# Altium footprint library FootprintLib.PcbLib: 194 footprints (part 5 of 13)
Each footprint in its own frame and in the unit in brackets; x right, y up, seen from the top. Pads: shape width x height; smd on the part's side, far side on the other; paste and mask are expansions set on the pad; w line width, h text height; cw(c..) or ccw(c..) is an arc to the next point about the centre after c.
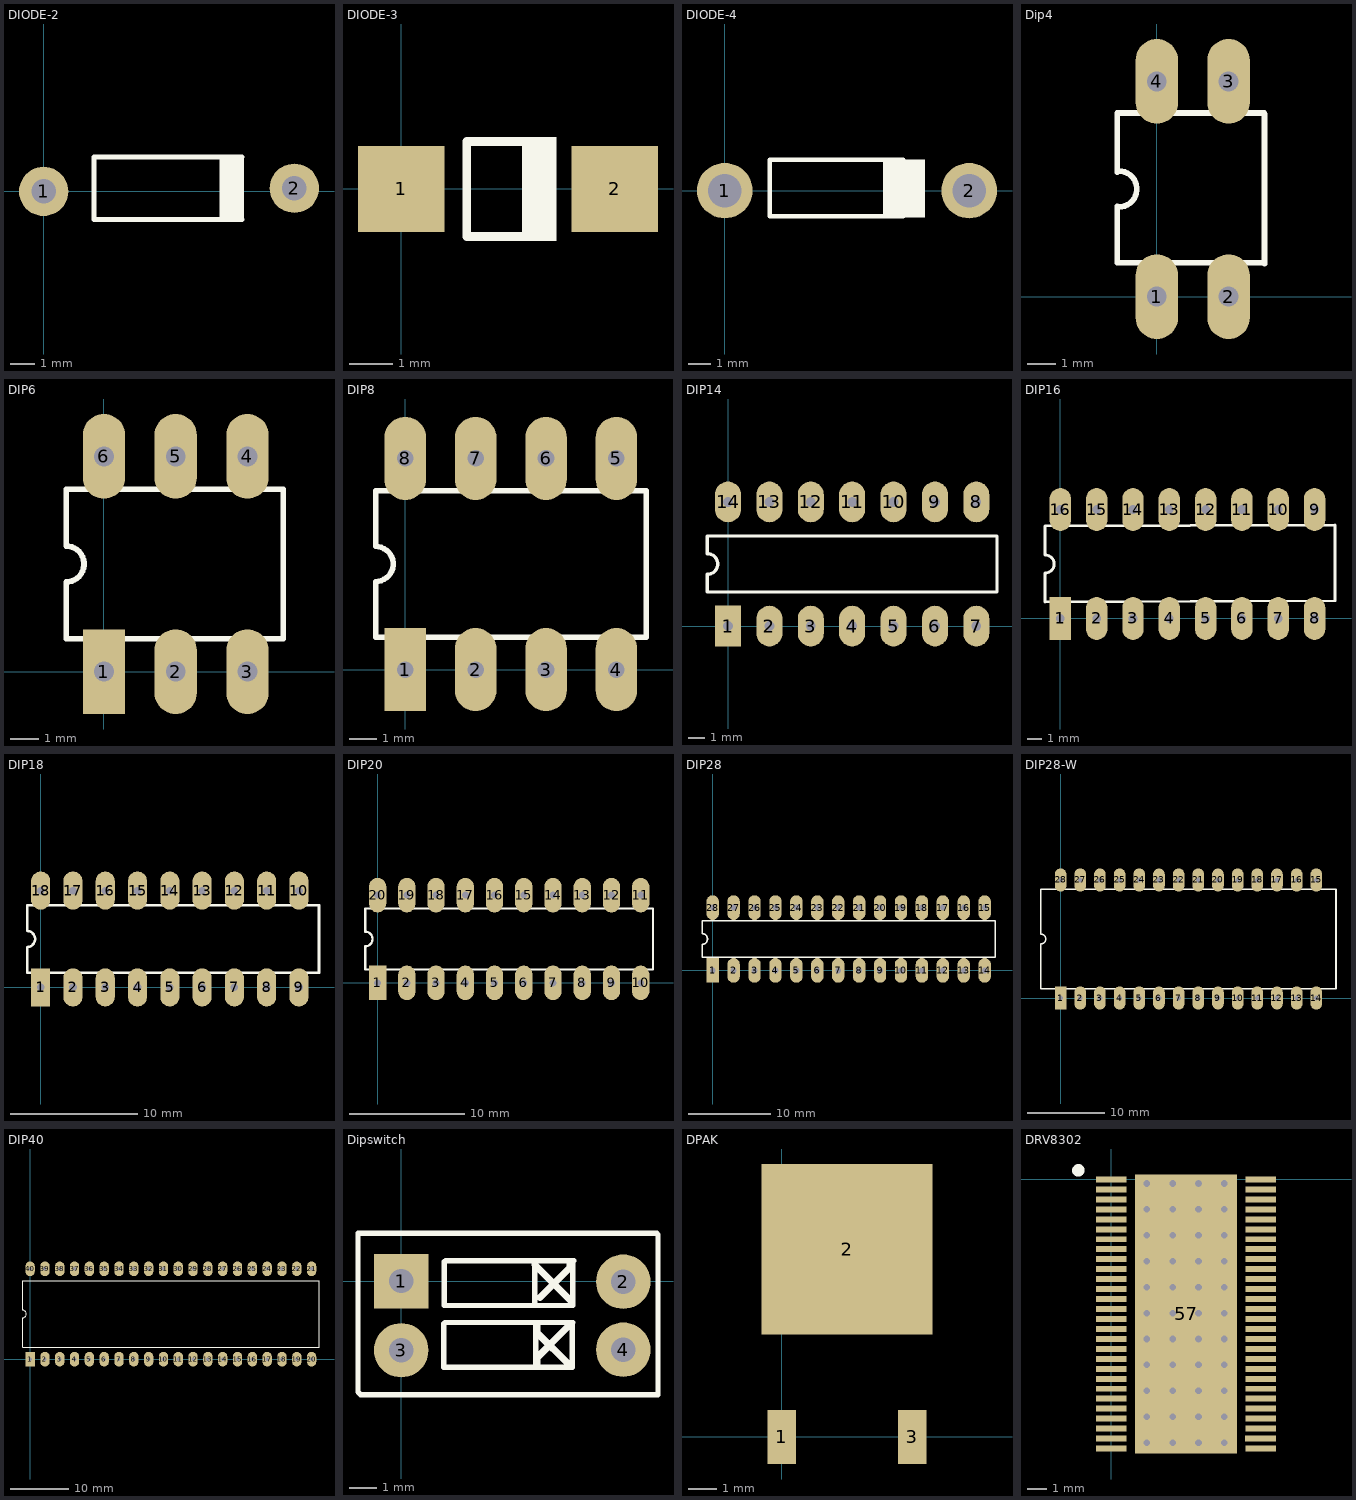
[diagram p4: the footprints below, top view; thin cyan lines are the x and y axes]

## DIODE-2 [mm]
pads (2):
  round 2 hole 1: 1(0,0) 2(10.16,0.127)
Top Overlay:
  rectangle: 7.128,-1.203 8.128,1.397
  lines w0.2: 2.032,1.357 2.032,-1.143 8.032,-1.143 ; 2.032,1.397 8.032,1.397

## DIODE-3 [mm]
pads (2):
  rect 2x2 smd: 1(0,0) 2(4.953,0)
Top Overlay:
  rectangle: 2.797,-1.2 3.597,1.2
  lines w0.2: 3.429,-1.1 1.524,-1.1 1.524,1.1 3.429,1.1

## DIODE-4 [mm]
pads (2):
  round 2.5 hole 1.5: 1(0,0) 2(11,0)
Top Overlay:
  rectangle: 7.128,-1.203 9.017,1.397
  lines w0.2: 2.032,1.357 2.032,-1.143 8.032,-1.143 ; 2.032,1.397 8.032,1.397

## Dip4 [mm]
pads (4):
  oval 1.5x3 hole 0.7: 1(0,0) 2(2.54,0) 3(2.54,7.62) 4(0,7.62)
Top Overlay:
  lines w0.2: -1.4,3.2 -1.4,1.2 3.8,1.2 ; -1.4,4.4 -1.4,6.5 3.8,6.5 ; -1.34,3.175 ccw(c-1.34,3.81) -1.34,4.445 ; 3.81,1.16 3.81,6.46

## DIP6 [mm]
pads (6):
  rect 1.5x3 hole 0.7: 1(0,0)
  oval 1.5x3 hole 0.7: 2(2.54,0) 3(5.08,0) 4(5.08,7.62) 5(2.54,7.62) 6(0,7.62)
Top Overlay:
  lines w0.2: -1.34,1.16 6.35,1.16 6.35,6.46 -1.34,6.46 -1.34,4.445 cw(c-1.34,3.81) -1.34,3.175 -1.34,1.16

## DIP8 [mm]
pads (8):
  rect 1.5x3 hole 0.6: 1(0,0)
  oval 1.5x3 hole 0.6: 2(2.54,0) 3(5.08,0) 4(7.62,0) 5(7.62,7.62) 6(5.08,7.62) 7(2.54,7.62) 8(0,7.62)
Top Overlay:
  lines w0.2: -1.07,1.16 -1.07,3.175 ccw(c-1.07,3.81) -1.07,4.445 -1.07,6.46 8.69,6.46 8.69,1.16 -1.07,1.16

## DIP14 [mm]
pads (14):
  rect 1.6x2.5 hole 0.6: 1(0,0)
  oval 1.6x2.5 hole 0.6: 2(2.54,0) 3(5.08,0) 4(7.62,0) 5(10.16,0) 6(12.7,0) 7(15.24,0) 8(15.24,7.62) 9(12.7,7.62) 10(10.16,7.62) 11(7.62,7.62) 12(5.08,7.62) 13(2.54,7.62) 14(0,7.62)
Top Overlay:
  lines w0.2: -1.27,2.085 16.51,2.085 16.51,5.535 -1.27,5.535 -1.27,4.445 cw(c-1.27,3.81) -1.27,3.175 -1.27,2.085

## DIP16 [mm]
pads (16):
  rect 1.5x3 hole 0.6: 1(0,0)
  oval 1.5x3 hole 0.6: 2(2.54,0) 3(5.08,0) 4(7.62,0) 5(10.16,0) 6(12.7,0) 7(15.24,0) 8(17.78,0) 9(17.78,7.62) 10(15.24,7.62) 11(12.7,7.62) 12(10.16,7.62) 13(7.62,7.62) 14(5.08,7.62) 15(2.54,7.62) 16(0,7.62)
Top Overlay:
  lines w0.2: -1.07,1.16 -1.07,3.175 ccw(c-1.07,3.81) -1.07,4.445 -1.07,6.46 19.22,6.55 19.22,1.24 -1.07,1.16

## DIP18 [mm]
pads (18):
  rect 1.5x3 hole 0.6: 1(0,0)
  oval 1.5x3 hole 0.6: 2(2.54,0) 3(5.08,0) 4(7.62,0) 5(10.16,0) 6(12.7,0) 7(15.24,0) 8(17.78,0) 9(20.32,0) 10(20.32,7.62) 11(17.78,7.62) 12(15.24,7.62) 13(12.7,7.62) 14(10.16,7.62) 15(7.62,7.62) 16(5.08,7.62) 17(2.54,7.62) 18(0,7.62)
Top Overlay:
  lines w0.2: -1.07,1.16 21.898,1.16 21.898,6.46 -1.07,6.46 -1.07,4.445 cw(c-1.07,3.81) -1.07,3.175 -1.07,1.16

## DIP20 [mm]
pads (20):
  rect 1.5x3 hole 0.6: 1(0,0)
  oval 1.5x3 hole 0.6: 2(2.54,0) 3(5.08,0) 4(7.62,0) 5(10.16,0) 6(12.7,0) 7(15.24,0) 8(17.78,0) 9(20.32,0) 10(22.86,0) 11(22.86,7.62) 12(20.32,7.62) 13(17.78,7.62) 14(15.24,7.62) 15(12.7,7.62) 16(10.16,7.62) 17(7.62,7.62) 18(5.08,7.62) 19(2.54,7.62) 20(0,7.62)
Top Overlay:
  lines w0.2: -1.07,1.16 23.93,1.16 23.93,6.46 -1.07,6.46 -1.07,4.445 cw(c-1.07,3.81) -1.07,3.175 -1.07,1.16

## DIP28 [mm]
pads (28):
  rect 1.5x3 hole 0.7: 1(0,0)
  oval 1.5x3 hole 0.7: 2(2.54,0) 3(5.08,0) 4(7.62,0) 5(10.16,0) 6(12.7,0) 7(15.24,0) 8(17.78,0) 9(20.32,0) 10(22.86,0) 11(25.4,0) 12(27.94,0) 13(30.48,0) 14(33.02,0) 15(33.02,7.62) 16(30.48,7.62) 17(27.94,7.62) 18(25.4,7.62) 19(22.86,7.62) 20(20.32,7.62) 21(17.78,7.62) 22(15.24,7.62) 23(12.7,7.62) 24(10.16,7.62) 25(7.62,7.62) 26(5.08,7.62) 27(2.54,7.62) 28(0,7.62)
Top Overlay:
  lines w0.2: -1.27,1.585 -1.27,3.175 ccw(c-1.27,3.81) -1.27,4.445 -1.27,6.035 34.29,6.035 34.29,1.585 -1.27,1.585

## DIP28-W [mm]
pads (28):
  rect 1.5x3 hole 0.6: 1(0,0)
  oval 1.5x3 hole 0.6: 2(2.54,0) 3(5.08,0) 4(7.62,0) 5(10.16,0) 6(12.7,0) 7(15.24,0) 8(17.78,0) 9(20.32,0) 10(22.86,0) 11(25.4,0) 12(27.94,0) 13(30.48,0) 14(33.02,0) 15(33.02,15.24) 16(30.48,15.24) 17(27.94,15.24) 18(25.4,15.24) 19(22.86,15.24) 20(20.32,15.24) 21(17.78,15.24) 22(15.24,15.24) 23(12.7,15.24) 24(10.16,15.24) 25(7.62,15.24) 26(5.08,15.24) 27(2.54,15.24) 28(0,15.24)
Top Overlay:
  lines w0.2: -2.54,1.17 -2.54,6.985 ccw(c-2.54,7.62) -2.54,8.255 -2.54,14.07 35.56,14.07 35.56,1.17 -2.54,1.17

## DIP40 [mm]
pads (40):
  rect 1.6x2.5 hole 0.6: 1(0,0)
  oval 1.6x2.5 hole 0.6: 2(2.54,0) 3(5.08,0) 4(7.62,0) 5(10.16,0) 6(12.7,0) 7(15.24,0) 8(17.78,0) 9(20.32,0) 10(22.86,0) 11(25.4,0) 12(27.94,0) 13(30.48,0) 14(33.02,0) 15(35.56,0) 16(38.1,0) 17(40.64,0) 18(43.18,0) 19(45.72,0) 20(48.26,0) 21(48.26,15.5) 22(45.72,15.5) 23(43.18,15.5) 24(40.64,15.5) 25(38.1,15.5) 26(35.56,15.5) 27(33.02,15.5) 28(30.48,15.5) 29(27.94,15.5) 30(25.4,15.5) 31(22.86,15.5) 32(20.32,15.5) 33(17.78,15.5) 34(15.24,15.5) 35(12.7,15.5) 36(10.16,15.5) 37(7.62,15.5) 38(5.08,15.5) 39(2.54,15.5) 40(0,15.5)
Top Overlay:
  lines w0.2: -1.27,2.085 49.53,2.085 49.53,13.415 -1.27,13.415 -1.27,8.385 cw(c-1.27,7.75) -1.27,7.115 -1.27,2.085

## Dipswitch [mm]
pads (4):
  rect 2x2 hole 0.889: 1(0,0)
  round 2 hole 0.889: 2(8.163,-0.02) 3(0,-2.54) 4(8.163,-2.52)
Top Overlay:
  lines w0.2: 4.913,-0.895 4.913,0.755 ; 4.938,-3.17 4.938,-1.52 ; -1.587,-4.07 -1.487,-4.17 9.438,-4.17 9.438,1.705 9.388,1.755 -1.587,1.755 -1.587,-4.07 ; 1.563,-3.17 1.563,-1.57 1.613,-1.52 6.313,-1.52 6.288,-1.545 6.288,-3.17 1.563,-3.17 ; 1.588,-0.895 1.588,0.705 1.638,0.755 6.338,0.755 6.313,0.73 6.313,-0.895 1.588,-0.895
  lines w0.254: 4.913,0.7 4.913,0.587 6.2,-0.7 ; 5,-3.1 5,-2.8 6.1,-1.7 ; 5,-1.6 5,-1.9 6.2,-3.1 ; 5.1,-0.6 6.2,0.5 6.2,0.7

## DPAK [mm]
pads (3):
  rect 1x1.9 smd: 1(0,0) 3(4.6,0)
  rect 6x6 smd: 2(2.3,6.6)

## DRV8302 [mm]
pads (57):
  rect 1.55x0.3 smd: 1(0,0) 2(0,-0.5) 3(0,-1) 4(0,-1.5) 5(0,-2) 6(0,-2.5) 7(0,-3) 8(0,-3.5) 9(0,-4) 10(0,-4.5) 11(0,-5) 12(0,-5.5) 13(0,-6) 14(0,-6.5) 15(0,-7) 16(0,-7.5) 17(0,-8) 18(0,-8.5) 19(0,-9) 20(0,-9.5) 21(0,-10) 22(0,-10.5) 23(0,-11) 24(0,-11.5) 25(0,-12) 26(0,-12.5) 27(0,-13) 28(0,-13.5) 29(7.5,-13.5) 30(7.493,-13) 31(7.5,-12.5) 32(7.5,-12) 33(7.5,-11.5) 34(7.5,-11) 35(7.5,-10.5) 36(7.5,-10) 37(7.5,-9.5) 38(7.5,-9) 39(7.5,-8.5) 40(7.5,-8) 41(7.5,-7.5) 42(7.5,-7) 43(7.5,-6.5) 44(7.5,-6) 45(7.5,-5.5) 46(7.5,-5) 47(7.5,-4.5) 48(7.5,-4) 49(7.5,-3.5) 50(7.5,-3) 51(7.5,-2.5) 52(7.5,-2) 53(7.5,-1.5) 54(7.5,-1) 55(7.5,-0.5) 56(7.5,0)
  rect 5.1x14 smd paste-10 mask-10: 57(3.75,-6.75)
via 1.778,-13.203 diameter 0.584 hole 0.33
via 1.778,-11.903 diameter 0.584 hole 0.33
via 1.778,-10.603 diameter 0.584 hole 0.33
via 1.778,-9.303 diameter 0.584 hole 0.33
via 1.778,-8.003 diameter 0.584 hole 0.33
via 1.778,-6.703 diameter 0.584 hole 0.33
via 1.778,-5.403 diameter 0.584 hole 0.33
via 1.778,-4.103 diameter 0.584 hole 0.33
via 1.778,-2.803 diameter 0.584 hole 0.33
via 1.778,-1.503 diameter 0.584 hole 0.33
via 1.778,-0.203 diameter 0.584 hole 0.33
via 3.078,-13.203 diameter 0.584 hole 0.33
via 3.078,-11.903 diameter 0.584 hole 0.33
via 3.078,-10.603 diameter 0.584 hole 0.33
via 3.078,-9.303 diameter 0.584 hole 0.33
via 3.078,-8.003 diameter 0.584 hole 0.33
via 3.078,-6.703 diameter 0.584 hole 0.33
via 3.078,-5.403 diameter 0.584 hole 0.33
via 3.078,-4.103 diameter 0.584 hole 0.33
via 3.078,-2.803 diameter 0.584 hole 0.33
via 3.078,-1.503 diameter 0.584 hole 0.33
via 3.078,-0.203 diameter 0.584 hole 0.33
via 4.378,-13.203 diameter 0.584 hole 0.33
via 4.378,-11.903 diameter 0.584 hole 0.33
via 4.378,-10.603 diameter 0.584 hole 0.33
via 4.378,-9.303 diameter 0.584 hole 0.33
via 4.378,-8.003 diameter 0.584 hole 0.33
via 4.378,-6.703 diameter 0.584 hole 0.33
via 4.378,-5.403 diameter 0.584 hole 0.33
via 4.378,-4.103 diameter 0.584 hole 0.33
via 4.378,-2.803 diameter 0.584 hole 0.33
via 4.378,-1.503 diameter 0.584 hole 0.33
via 4.378,-0.203 diameter 0.584 hole 0.33
via 5.678,-13.203 diameter 0.584 hole 0.33
via 5.678,-11.903 diameter 0.584 hole 0.33
via 5.678,-10.603 diameter 0.584 hole 0.33
via 5.678,-9.303 diameter 0.584 hole 0.33
via 5.678,-8.003 diameter 0.584 hole 0.33
via 5.678,-6.703 diameter 0.584 hole 0.33
via 5.678,-5.403 diameter 0.584 hole 0.33
via 5.678,-4.103 diameter 0.584 hole 0.33
via 5.678,-2.803 diameter 0.584 hole 0.33
via 5.678,-1.503 diameter 0.584 hole 0.33
via 5.678,-0.203 diameter 0.584 hole 0.33
Top Overlay:
  circle w0.508: c-1.651,0.457 r0.057
Top Paste:
  rectangle: 1.945,-9.925 5.555,-3.575
Top Solder:
  rectangle: 1.945,-9.925 5.555,-3.575